# Altium schematic symbol library Digital IC.SchLib: 38 symbols
Pins are listed as number, name and electrical type; pins without a type are passive.

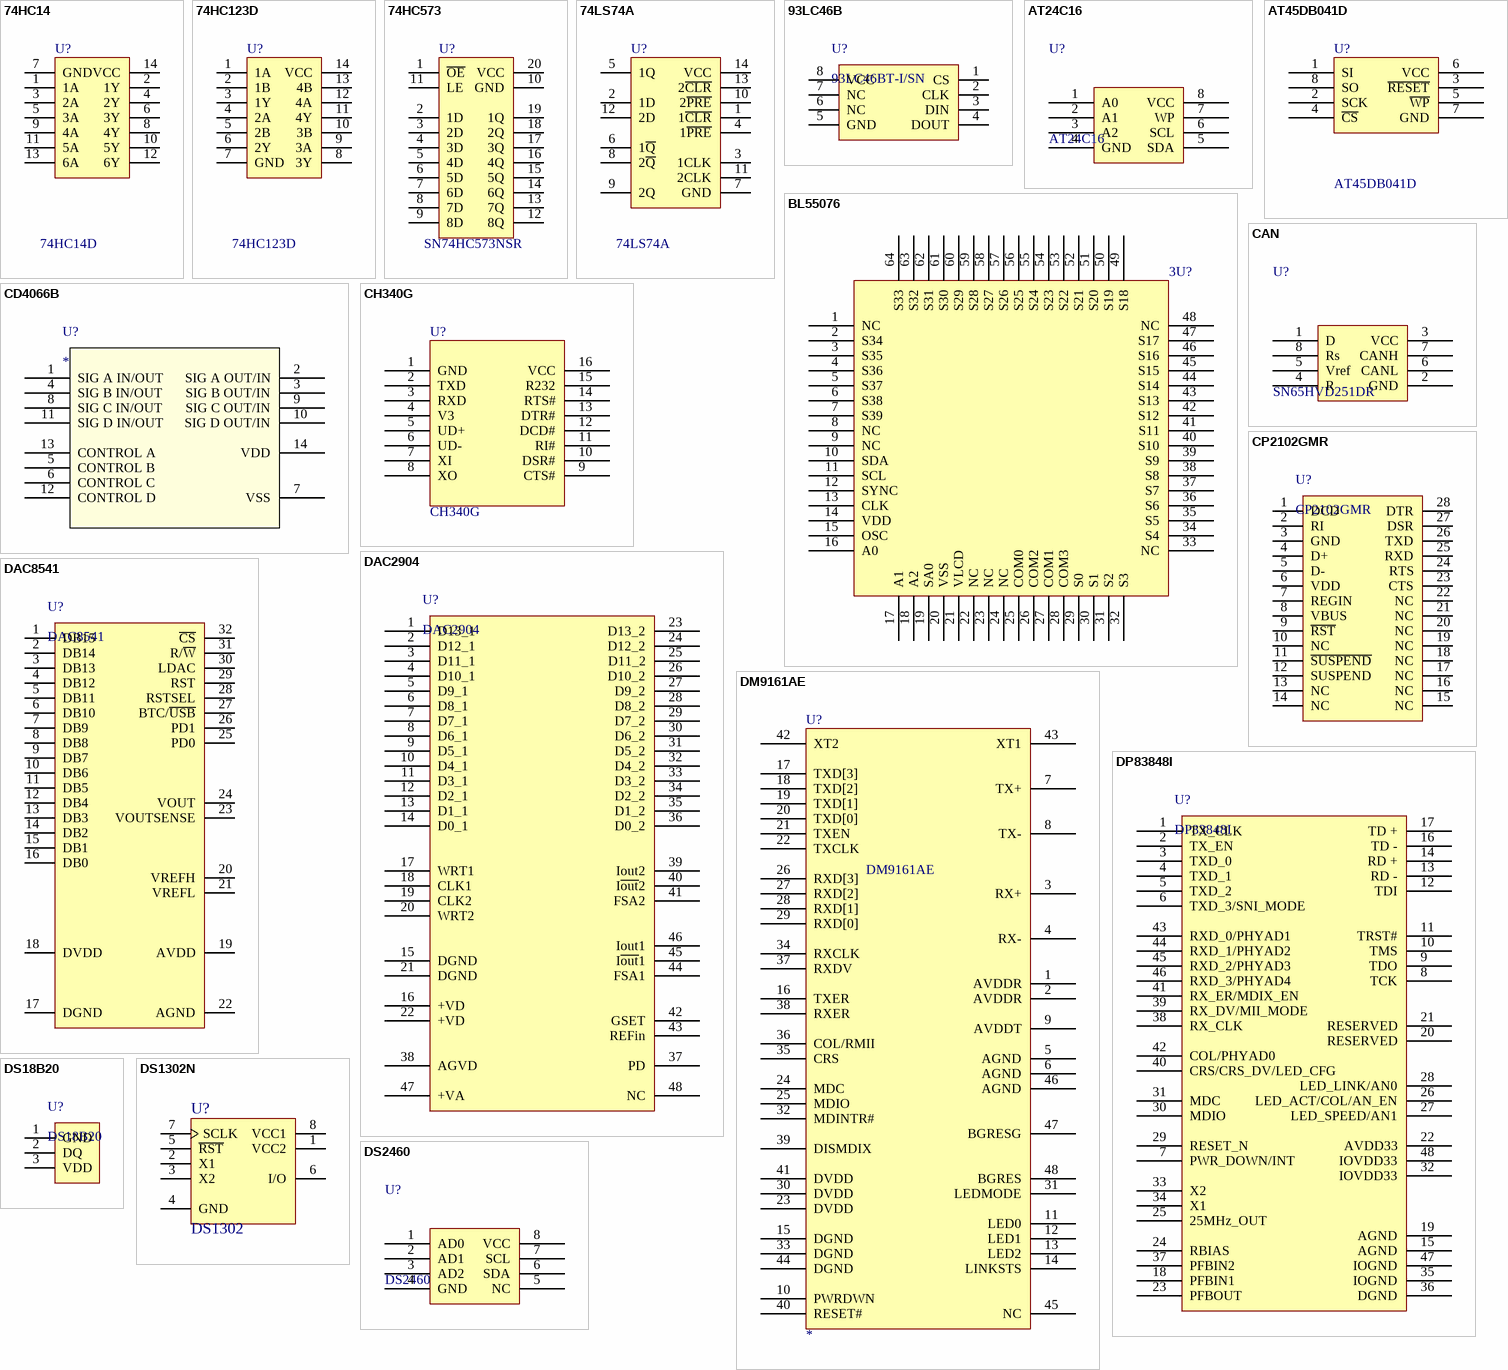
[diagram p0: symbols 74HC14 to DS2460]

## 74HC14
designator U?, comment 74HC14D
74HC14
footprint SOIC14
pins: 1 1A, 2 1Y, 3 2A, 4 2Y, 5 3A, 6 3Y, 7 GND, 8 4Y, 9 4A, 10 5Y, 11 5A, 12 6Y, 13 6A, 14 VCC

## 74HC123D
designator U?
footprint SOIC14
pins: 1 1A, 2 1B, 3 1Y, 4 2A, 5 2B, 6 2Y, 7 GND, 8 3Y, 9 3A, 10 3B, 11 4Y, 12 4A, 13 4B, 14 VCC

## 74HC573
designator U?, comment SN74HC573NSR
74HC573
footprint SOP-20
pins: 1 ~{OE}, 2 1D, 3 2D, 4 3D, 5 4D, 6 5D, 7 6D, 8 7D, 9 8D, 10 GND, 11 LE, 12 8Q, 13 7Q, 14 6Q, 15 5Q, 16 4Q, 17 3Q, 18 2Q, 19 1Q, 20 VCC

## 74LS74A
designator U?
Dual D-Type posotive-edge-triggered flip-flops with preset and clear
footprint SOIC14
pins: 1 1~{CLR}, 2 1D, 3 1CLK, 4 1~{PRE}, 5 1Q, 6 1~{Q}, 7 GND, 8 2~{Q}, 9 2Q, 10 2~{PRE}, 11 2CLK, 12 2D, 13 2~{CLR}, 14 VCC

## 93LC46B
designator U?, comment 93LC46BT-I/SN
EEPROM SPI
footprint SO-8
pins: 1 CS, 2 CLK, 3 DIN, 4 DOUT, 5 GND, 6 NC, 7 NC, 8 VCC

## AT24C16
designator U?
EEPROM I2C
footprint SO-8
pins: 1 A0, 2 A1, 3 A2, 4 GND, 5 SDA, 6 SCL, 7 WP, 8 VCC

## AT45DB041D
designator U?
Flash IC
footprint SOIC8
pins: 1 SI, 2 SCK, 3 ~{RESET}, 4 ~{CS}, 5 ~{WP}, 6 VCC, 7 GND, 8 SO

## BL55076
designator 3U?  (value not drawn)
LCD Driver
footprint QFP64A
pins: 1 NC, 2 S34, 3 S35, 4 S36, 5 S37, 6 S38, 7 S39, 8 NC, 9 NC, 10 SDA, 11 SCL, 12 SYNC, 13 CLK, 14 VDD, 15 OSC, 16 A0, 17 A1, 18 A2, 19 SA0, 20 VSS, 21 VLCD, 22 NC, 23 NC, 24 NC, 25 COM0, 26 COM2, 27 COM1, 28 COM3, 29 S0, 30 S1, 31 S2, 32 S3, 33 NC, 34 S4, 35 S5, 36 S6, 37 S7, 38 S8, 39 S9, 40 S10, 41 S11, 42 S12, 43 S13, 44 S14, 45 S15, 46 S16, 47 S17, 48 NC, 49 S18, 50 S19, 51 S20, 52 S21, 53 S22, 54 S23, 55 S24, 56 S25, 57 S26, 58 S27, 59 S28, 60 S29, 61 S30, 62 S31, 63 S32, 64 S33

## CAN
designator U?, comment SN65HVD251DR
CAN 5V
footprint SO-8
pins: 1 D, 2 GND, 3 VCC, 4 R, 5 Vref, 6 CANL, 7 CANH, 8 Rs

## CD4066B
designator U?
Imported; Manufacturer: Texas Instruments; GENERIC_PART_NUMBER: CD4066B; INDUSTRY_STD_PKG_TYPE: SOIC; FAMILY_NAME: ANALOG SWITCH/MULTIPLEXER (greater than 5V); PIN_COUNT: 14; PACKAGE_DESIGNATOR: D; Datasheet_URL: http://www.ti.com/lit/gpn/CD4066B; RefDes: RefDes; Type: Type; Value: Value
footprint SOP-14
pins: 1 SIG A IN/OUT, 2 SIG A OUT/IN, 3 SIG B OUT/IN, 4 SIG B IN/OUT, 5 CONTROL B, 6 CONTROL C, 7 VSS (power), 8 SIG C IN/OUT, 9 SIG C OUT/IN, 10 SIG D OUT/IN, 11 SIG D IN/OUT, 12 CONTROL D, 13 CONTROL A, 14 VDD (power)

## CH340G
designator U?
USB to TTL Serial / UART
footprint so-16
pins: 1 GND (power), 2 TXD, 3 RXD, 4 V3 (power), 5 UD+, 6 UD-, 7 XI, 8 XO, 9 CTS#, 10 DSR#, 11 RI#, 12 DCD#, 13 DTR#, 14 RTS#, 15 R232, 16 VCC (power)

## CP2102GMR
designator U?
footprint QFN28 (PQFN, 28-Leads, Body 5.00x5.00mm, Pitch 0.50mm, Thermal Pad 3.24x3.24mm, IPC Medium Density)
pins: 1 DCD, 2 RI, 3 GND, 4 D+, 5 D-, 6 VDD, 7 REGIN, 8 VBUS, 9 ~{RST}, 10 NC, 11 ~{SUSPEND}, 12 SUSPEND, 13 NC, 14 NC, 15 NC, 16 NC, 17 NC, 18 NC, 19 NC, 20 NC, 21 NC, 22 NC, 23 CTS, 24 RTS, 25 RXD, 26 TXD, 27 DSR, 28 DTR

## DAC2904
designator U?
footprint TQFP48 (TSQFP, 48-Leads, Body 9.2x9.2mm (max), Pitch 0.50mm, IPC Medium Density)
pins: 1 D13_1, 2 D12_1, 3 D11_1, 4 D10_1, 5 D9_1, 6 D8_1, 7 D7_1, 8 D6_1, 9 D5_1, 10 D4_1, 11 D3_1, 12 D2_1, 13 D1_1, 14 D0_1, 15 DGND, 16 +VD, 17 WRT1, 18 CLK1, 19 CLK2, 20 WRT2, 21 DGND, 22 +VD, 23 D13_2, 24 D12_2, 25 D11_2, 26 D10_2, 27 D9_2, 28 D8_2, 29 D7_2, 30 D6_2, 31 D5_2, 32 D4_2, 33 D3_2, 34 D2_2, 35 D1_2, 36 D0_2, 37 PD, 38 AGVD, 39 Iout2, 40 I~{out}2, 41 FSA2, 42 GSET, 43 REFin, 44 FSA1, 45 I~{out}1, 46 Iout1, 47 +VA, 48 NC

## DAC8541
designator U?
footprint TSQFP32 (TSQFP, 32-Leads, Body 5.00x5.00mm, Pitch 0.50mm, IPC Medium Density)
pins: 1 DB15, 2 DB14, 3 DB13, 4 DB12, 5 DB11, 6 DB10, 7 DB9, 8 DB8, 9 DB7, 10 DB6, 11 DB5, 12 DB4, 13 DB3, 14 DB2, 15 DB1, 16 DB0, 17 DGND, 18 DVDD, 19 AVDD, 20 VREFH, 21 VREFL, 22 AGND, 23 VOUTSENSE, 24 VOUT, 25 PD0, 26 PD1, 27 BTC/~{USB}, 28 RSTSEL, 29 RST, 30 LDAC, 31 R/~{W}, 32 ~{CS}

## DM9161AE
designator U?
Ethernet PHY; DAVICOM: *
footprint LQFP48
pins: 1 AVDDR, 2 AVDDR, 3 RX+, 4 RX-, 5 AGND, 6 AGND, 7 TX+, 8 TX-, 9 AVDDT, 10 PWRDWN, 11 LED0, 12 LED1, 13 LED2, 14 LINKSTS, 15 DGND, 16 TXER, 17 TXD[3], 18 TXD[2], 19 TXD[1], 20 TXD[0], 21 TXEN, 22 TXCLK, 23 DVDD, 24 MDC, 25 MDIO, 26 RXD[3], 27 RXD[2], 28 RXD[1], 29 RXD[0], 30 DVDD, 31 LEDMODE, 32 MDINTR#, 33 DGND, 34 RXCLK, 35 CRS, 36 COL/RMII, 37 RXDV, 38 RXER, 39 DISMDIX, 40 RESET#, 41 DVDD, 42 XT2, 43 XT1, 44 DGND, 45 NC, 46 AGND, 47 BGRESG, 48 BGRES

## DP83848I
designator U?
Ethernet PHY
footprint LQFP48
pins: 1 TX_CLK, 2 TX_EN, 3 TXD_0, 4 TXD_1, 5 TXD_2, 6 TXD_3/SNI_MODE, 7 PWR_DOWN/INT, 8 TCK, 9 TDO, 10 TMS, 11 TRST#, 12 TDI, 13 RD -, 14 RD +, 15 AGND, 16 TD -, 17 TD +, 18 PFBIN1, 19 AGND, 20 RESERVED, 21 RESERVED, 22 AVDD33, 23 PFBOUT, 24 RBIAS, 25 25MHz_OUT, 26 LED_ACT/COL/AN_EN, 27 LED_SPEED/AN1, 28 LED_LINK/AN0, 29 RESET_N, 30 MDIO, 31 MDC, 32 IOVDD33, 33 X2, 34 X1, 35 IOGND, 36 DGND, 37 PFBIN2, 38 RX_CLK, 39 RX_DV/MII_MODE, 40 CRS/CRS_DV/LED_CFG, 41 RX_ER/MDIX_EN, 42 COL/PHYAD0, 43 RXD_0/PHYAD1, 44 RXD_1/PHYAD2, 45 RXD_2/PHYAD3, 46 RXD_3/PHYAD4, 47 IOGND, 48 IOVDD33

## DS18B20
designator U?
footprint TO-92
pins: 1 GND, 2 DQ, 3 VDD

## DS1302N
designator U?, comment DS1302
Trickle Charge Timekeeping Chip; Published: 13-Oct-2000; LatestRevisionDate: 06-Jun-2005; LatestRevisionNote: Stylized 3D Model Added.; DatasheetVersion: 2-Jul-1999; PackageVersion: 1999; PackageReference: DIP8; Publisher: Altium Limited; PackageDescription: DIP; 8 Leads; Row Spacing 7.62 mm; Pitch 2.54 mm; ComponentLink1Description: Manufacturer Link; ComponentLink1URL: http://www.maxim-ic.com/; ComponentLink2Description: Datasheet; ComponentLink2URL: http://pdfserv.maxim-ic.com/en/ds/DS1302.pdf; ComponentLink3Description: Discontinuation Notice; ComponentLink3URL: http://www.maxim-ic.com/qa/pdfs/non-obsolescence-letter.pdf
footprint SO-8
pins: 1 VCC2 (power), 2 X1, 3 X2, 4 GND (power), 5 ~{RST}, 6 I/O, 7 SCLK, 8 VCC1 (power)
2 alternate drawings of the same symbol

## DS2460
designator U?
footprint SO-8
pins: 1 AD0, 2 AD1, 3 AD2, 4 GND, 5 NC, 6 SDA, 7 SCL, 8 VCC

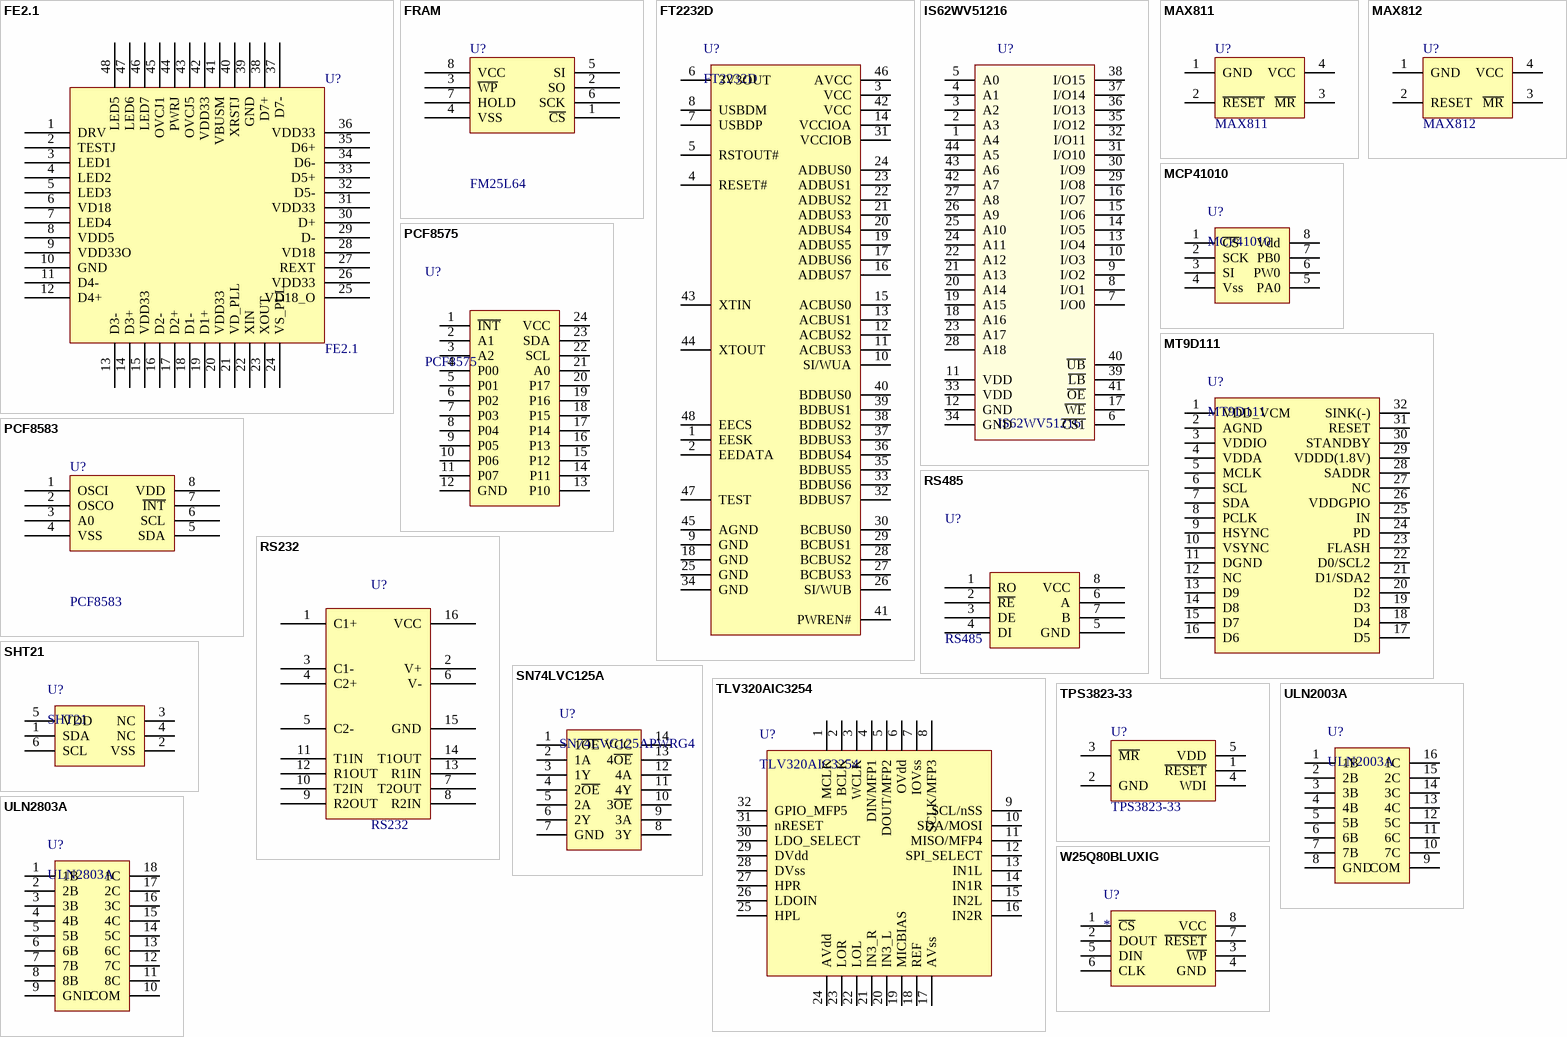
[diagram p1: symbols FE2.1 to W25Q80BLUXIG]

## FE2.1
designator U?
footprint LQFP48
footprint TQFP48 (TSQFP, 48-Leads, Body 9.2x9.2mm (max), Pitch 0.50mm, IPC Medium Density)
pins: 1 DRV, 2 TESTJ, 3 LED1, 4 LED2, 5 LED3, 6 VD18, 7 LED4, 8 VDD5, 9 VDD33O, 10 GND, 11 D4-, 12 D4+, 13 D3-, 14 D3+, 15 VDD33, 16 D2-, 17 D2+, 18 D1-, 19 D1+, 20 VDD33, 21 VD_PLL, 22 XIN, 23 XOUT, 24 VS_PLL, 25 VD18_O, 26 VDD33, 27 REXT, 28 VD18, 29 D-, 30 D+, 31 VDD33, 32 D5-, 33 D5+, 34 D6-, 35 D6+, 36 VDD33, 37 D7-, 38 D7+, 39 GND, 40 XRSTJ, 41 VBUSM, 42 VDD33, 43 OVCJ5, 44 PWRJ, 45 OVCJ1, 46 LED7, 47 LED6, 48 LED5

## FRAM
designator U?, comment FM25L64
FRAM FM25L64
footprint SOIC8
pins: 1 ~{CS}, 2 SO, 3 ~{WP}, 4 VSS, 5 SI, 6 SCK, 7 HOLD, 8 VCC

## FT2232D
designator U?
FT2232D Usb Jtag Uart
footprint LQFP48
pins: 1 EESK, 2 EEDATA, 3 VCC, 4 RESET#, 5 RSTOUT#, 6 3V3OUT, 7 USBDP, 8 USBDM, 9 GND, 10 SI/WUA, 11 ACBUS3, 12 ACBUS2, 13 ACBUS1, 14 VCCIOA, 15 ACBUS0, 16 ADBUS7, 17 ADBUS6, 18 GND, 19 ADBUS5, 20 ADBUS4, 21 ADBUS3, 22 ADBUS2, 23 ADBUS1, 24 ADBUS0, 25 GND, 26 SI/WUB, 27 BCBUS3, 28 BCBUS2, 29 BCBUS1, 30 BCBUS0, 31 VCCIOB, 32 BDBUS7, 33 BDBUS6, 34 GND, 35 BDBUS5, 36 BDBUS4, 37 BDBUS3, 38 BDBUS2, 39 BDBUS1, 40 BDBUS0, 41 PWREN#, 42 VCC, 43 XTIN, 44 XTOUT, 45 AGND, 46 AVCC, 47 TEST, 48 EECS

## IS62WV51216
designator U?
footprint TSOP44
pins: 1 A4, 2 A3, 3 A2, 4 A1, 5 A0, 6 ~{CS1}, 7 I/O0, 8 I/O1, 9 I/O2, 10 I/O3, 11 VDD, 12 GND, 13 I/O4, 14 I/O5, 15 I/O6, 16 I/O7, 17 ~{WE}, 18 A16, 19 A15, 20 A14, 21 A13, 22 A12, 23 A17, 24 A11, 25 A10, 26 A9, 27 A8, 28 A18, 29 I/O8, 30 I/O9, 31 I/O10, 32 I/O11, 33 VDD, 34 GND, 35 I/O12, 36 I/O13, 37 I/O14, 38 I/O15, 39 ~{LB}, 40 ~{UB}, 41 ~{OE}, 42 A7, 43 A6, 44 A5

## MAX811
designator U?
4-Pin Voltage Monitors with Manual Reset Input
footprint SOT-143
pins: 1 GND, 2 ~{RESET}, 3 ~{MR}, 4 VCC

## MAX812
designator U?
4-Pin Voltage Monitors with Manual Reset Input
footprint SOT-143
pins: 1 GND, 2 RESET, 3 ~{MR}, 4 VCC

## MCP41010
designator U?
footprint SOIC8
pins: 1 ~{CS}, 2 SCK, 3 SI, 4 Vss, 5 PA0, 6 PW0, 7 PB0, 8 Vdd

## MT9D111
designator U?
footprint MT9D111
pins: 1 VDD_VCM, 2 AGND, 3 VDDIO, 4 VDDA, 5 MCLK, 6 SCL, 7 SDA, 8 PCLK, 9 HSYNC, 10 VSYNC, 11 DGND, 12 NC, 13 D9, 14 D8, 15 D7, 16 D6, 17 D5, 18 D4, 19 D3, 20 D2, 21 D1/SDA2, 22 D0/SCL2, 23 FLASH, 24 PD, 25 IN, 26 VDDGPIO, 27 NC, 28 SADDR, 29 VDDD(1.8V), 30 STANDBY, 31 RESET, 32 SINK(-)

## PCF8575
designator U?
footprint SSOP24
pins: 1 ~{INT}, 2 A1, 3 A2, 4 P00, 5 P01, 6 P02, 7 P03, 8 P04, 9 P05, 10 P06, 11 P07, 12 GND, 13 P10, 14 P11, 15 P12, 16 P13, 17 P14, 18 P15, 19 P16, 20 P17, 21 A0, 22 SCL, 23 SDA, 24 VCC

## PCF8583
designator U?
RTC
footprint SOIC8
pins: 1 OSCI, 2 OSCO, 3 A0, 4 VSS, 5 SDA, 6 SCL, 7 ~{INT}, 8 VDD

## RS232
designator U?
RS232 IC 3.3V
footprint so-16
pins: 1 C1+, 2 V+, 3 C1-, 4 C2+, 5 C2-, 6 V-, 7 T2OUT, 8 R2IN, 9 R2OUT, 10 T2IN, 11 T1IN, 12 R1OUT, 13 R1IN, 14 T1OUT, 15 GND, 16 VCC

## RS485
designator U?
RS485 IC 3.3V
footprint SO-8
pins: 1 RO, 2 ~{RE}, 3 DE, 4 DI, 5 GND, 6 A, 7 B, 8 VCC

## SHT21
designator U?
footprint DFN-6
pins: 1 SDA, 2 VSS, 3 NC, 4 NC, 5 VDD, 6 SCL

## SN74LVC125A
designator U?, comment SN74LVC125APWRG4
Quadruple Bus Buffer Gate With 3-State Outputs
footprint SSOP14
pins: 1 1~{OE}, 2 1A, 3 1Y, 4 2~{OE}, 5 2A, 6 2Y, 7 GND, 8 3Y, 9 3A, 10 3~{OE}, 11 4Y, 12 4A, 13 4~{OE}, 14 VCC

## TLV320AIC3254
designator U?
footprint QFN32 (LC-QFN-32_5x5x05P)
pins: 1 MCLK, 2 BCLK, 3 WCLK, 4 DIN/MFP1, 5 DOUT/MFP2, 6 OVdd, 7 IOVss, 8 SCLK/MFP3, 9 SCL/nSS, 10 SDA/MOSI, 11 MISO/MFP4, 12 SPI_SELECT, 13 IN1L, 14 IN1R, 15 IN2L, 16 IN2R, 17 AVss, 18 REF, 19 MICBIAS, 20 IN3_L, 21 IN3_R, 22 LOL, 23 LOR, 24 AVdd, 25 HPL, 26 LDOIN, 27 HPR, 28 DVss, 29 DVdd, 30 LDO_SELECT, 31 nRESET, 32 GPIO_MFP5

## TPS3823-33
designator U?
footprint SOT-23-5
pins: 1 ~{RESET}, 2 GND, 3 ~{MR}, 4 WDI, 5 VDD

## ULN2003A
designator U?
footprint so-16
pins: 1 1B, 2 2B, 3 3B, 4 4B, 5 5B, 6 6B, 7 7B, 8 GND, 9 COM, 10 7C, 11 6C, 12 5C, 13 4C, 14 3C, 15 2C, 16 1C

## ULN2803A
designator U?
footprint SOIC18 (75MM)
pins: 1 1B, 2 2B, 3 3B, 4 4B, 5 5B, 6 6B, 7 7B, 8 8B, 9 GND, 10 COM, 11 8C, 12 7C, 13 6C, 14 5C, 15 4C, 16 3C, 17 2C, 18 1C

## W25Q80BLUXIG
designator U?
W25Q80BLUXIG
footprint USON
pins: 1 ~{CS}, 2 DOUT, 3 ~{WP}, 4 GND, 5 DIN, 6 CLK, 7 ~{RESET}, 8 VCC